# Altium footprint library HFJ111G01EL12RL.PcbLib: 1 footprints
Each footprint in its own frame and in the unit in brackets; x right, y up, seen from the top. Pads: shape width x height; smd on the part's side, far side on the other; paste and mask are expansions set on the pad; w line width, h text height; cw(c..) or ccw(c..) is an arc to the next point about the centre after c.
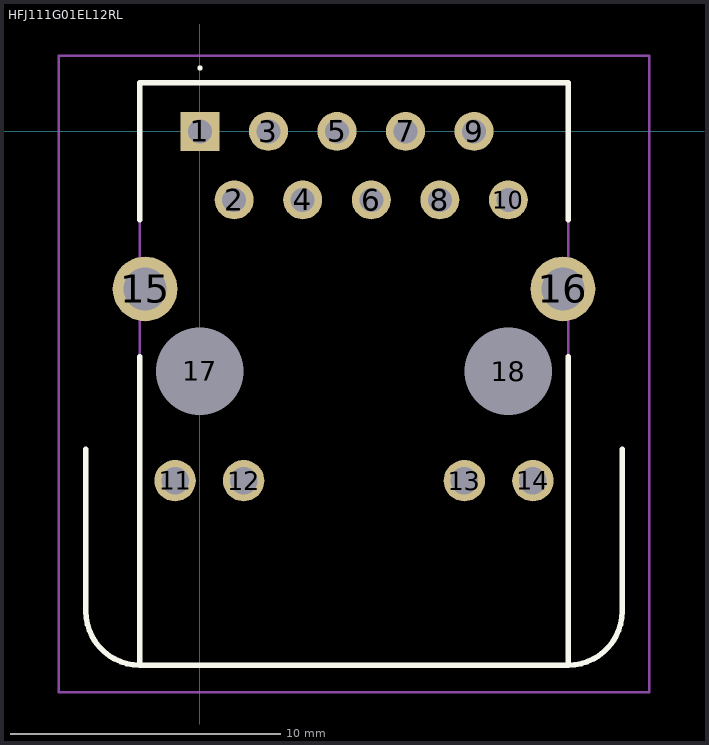
[diagram p0: the footprint, top view; thin cyan lines are the x and y axes]

## HFJ111G01EL12RL [mm]
pads (18):
  rect 1.446x1.446 hole 0.89: 1(0,0)
  round 1.446 hole 0.89: 2(1.27,-2.54) 3(2.54,0) 4(3.81,-2.54) 5(5.08,0) 6(6.35,-2.54) 7(7.62,0) 8(8.89,-2.54) 9(10.16,0) 10(11.43,-2.54)
  round 1.53 hole 1.02: 11(-0.92,-12.95) 12(1.62,-12.95) 13(9.8,-12.95) 14(12.34,-12.95)
  round 2.4 hole 1.6: 15(-2.035,-5.84) 16(13.455,-5.84)
  round 1.625 hole 3.25 unplated: 17(-0.005,-8.89) 18(11.425,-8.89)
Top Overlay:
  lines w0.1: 0,2.3 ccw(c0,2.35) 0,2.4 ccw(c0,2.35) 0,2.3
  lines w0.2: -4.23,-11.79 -4.23,-17.79 ccw(c-2.23,-17.79) -2.23,-19.79 ; -2.23,-8.36 -2.23,-19.79 ; -2.23,-3.28 -2.23,1.8 13.65,1.8 13.65,-3.28 ; 13.65,-8.36 13.65,-19.79 ; 15.65,-11.79 15.65,-17.79 cw(c13.65,-17.79) 13.65,-19.79 ; -2.23,-19.79 13.65,-19.79
Mechanical 15:
  lines w0.1: -4.23,-11.79 -4.23,-17.79 ccw(c-2.23,-17.79) -2.23,-19.79 ; 15.65,-11.79 15.65,-17.79 cw(c13.65,-17.79) 13.65,-19.79 ; -2.23,-19.79 -2.23,1.8 13.65,1.8 13.65,-19.79 ; -2.23,-19.79 13.65,-19.79
Mechanical 20:
  lines w0.1: -5.23,-20.79 -5.23,2.8 16.65,2.8 16.65,-20.79 -5.23,-20.79
3D body "HFJ11-1G01E-L12RL.stp": height 15.59, standoff -3.81, extent -4.105,-19.812 15.789,1.778